# EAGLE library part 3220-10-0100-00 (library Micromouse 2020)
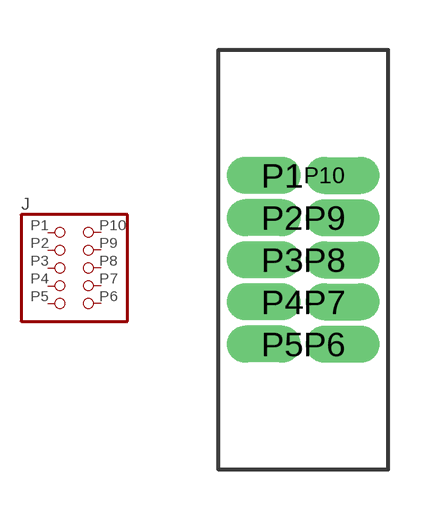
[diagram p4: symbol with the pads of 3220-10-0100-00; footprint 3220-10-0100-00]

Designator prefix J

## 3220-10-0100-00  [3220-10-0100-00]
P1  1  pas
P2  2  pas
P3  3  pas
P4  4  pas
P5  5  pas
P6  6  pas
P7  7  pas
P8  8  pas
P9  9  pas
P10  10  pas

## Footprint 3220-10-0100-00 (pad centres in mm)
drill 0.6 offset: P1 -0.635,2.54; P2 -0.635,1.27; P3 -0.635,0; P4 -0.635,-1.27; P5 -0.635,-2.54; P6 0.635,-2.54; P7 0.635,-1.27; P8 0.635,0; P9 0.635,1.27; P10 0.635,2.54